# EAGLE library part IS62C256AL-45ULI-TR (library Memory)
IC SRAM 256KBIT PARALLEL 28SOP Manufacturer's datasheet <https://www.issi.com/WW/pdf/62-65C256AL.pdf>
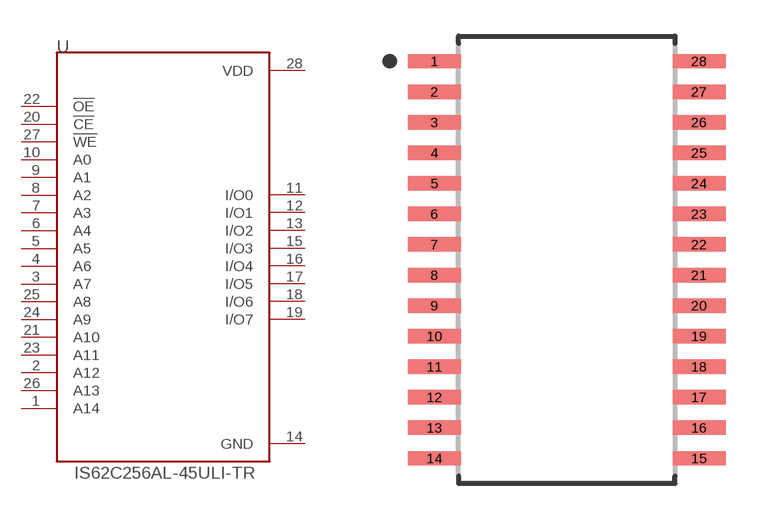
[diagram p19: symbol with the pads of SOP28; footprint SOP28]

Designator prefix U

## IS62C256AL-45ULI-TR (CREATED_BY: PCBLayout.com; DIGIKEY_PARTNO: 706-1310-2-ND; MANUFACTURER: ISSI, Integrated Silicon Solution Inc; MPN: IS62C256AL-45ULI-TR; PACKAGE: SOP28)  [SOP28]
1  A14  in
2  A12  in
3  A7  in
4  A6  in
5  A5  in
6  A4  in
7  A3  in
8  A2  in
9  A1  in
10  A0  in
11  I/O0
12  I/O1
13  I/O2
14  GND  pwr
15  I/O3
16  I/O4
17  I/O5
18  I/O6
19  I/O7
20  !CE  in
21  A10  in
22  !OE  in
23  A11  in
24  A9  in
25  A8  in
26  A13  in
27  !WE  in
28  VDD  pwr

## Footprint SOP28 (pad centres in mm)
SMALL OUTLINE PACKAGE
smd 2.2 x 0.6: 1 -5.5,8.255; 2 -5.5,6.985; 3 -5.5,5.715; 4 -5.5,4.445; 5 -5.5,3.175; 6 -5.5,1.905; 7 -5.5,0.635; 8 -5.5,-0.635; 9 -5.5,-1.905; 10 -5.5,-3.175; 11 -5.5,-4.445; 12 -5.5,-5.715; 13 -5.5,-6.985; 14 -5.5,-8.255; 15 5.5,-8.255; 16 5.5,-6.985; 17 5.5,-5.715; 18 5.5,-4.445; 19 5.5,-3.175; 20 5.5,-1.905; 21 5.5,-0.635; 22 5.5,0.635; 23 5.5,1.905; 24 5.5,3.175; 25 5.5,4.445; 26 5.5,5.715; 27 5.5,6.985; 28 5.5,8.255